# EAGLE library part 74F219 (library ICs)
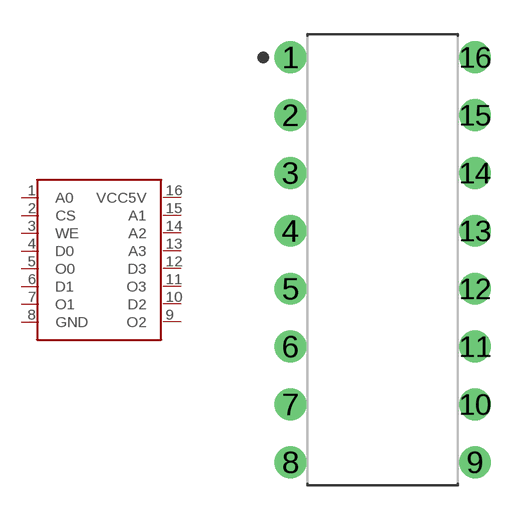
[diagram p15: symbol with the pads of DIP810W58P254L1930H342Q16B; footprint DIP810W58P254L1930H342Q16B]

Designator prefix -

## 74F21974F189-DIP-16  [DIP810W58P254L1930H342Q16B]
1  A0  in
2  CS  in
3  WE  in
4  D0  in
5  O0  out
6  D1  in
7  O1  out
8  GND
9  O2  out
10  D2  in
11  O3  out
12  D3  in
13  A3
14  A2
15  A1
16  VCC5V  pwr

## Footprint DIP810W58P254L1930H342Q16B (pad centres in mm)
16-DIP, 2.54 mm (0.10 in) pitch, 8.10 mm (0.32 in) span, 19.30 X 6.47 X 3.43 mm body 16-pin DIP package with 2.54 mm (0.10 in) pitch, 8.10 mm (0.32 in) span with body size 19.30 X 6.47 X 3.43 mm
drill 0.792 pad 1.392: 1 -4.05,8.89; 2 -4.05,6.35; 3 -4.05,3.81; 4 -4.05,1.27; 5 -4.05,-1.27; 6 -4.05,-3.81; 7 -4.05,-6.35; 8 -4.05,-8.89; 9 4.05,-8.89; 10 4.05,-6.35; 11 4.05,-3.81; 12 4.05,-1.27; 13 4.05,1.27; 14 4.05,3.81; 15 4.05,6.35; 16 4.05,8.89